# Altium footprint library Tigershark3D.PcbLib: 54 footprints (part 2 of 4)
Each footprint in its own frame and in the unit in brackets; x right, y up, seen from the top. Pads: shape width x height; smd on the part's side, far side on the other; paste and mask are expansions set on the pad; w line width, h text height; cw(c..) or ccw(c..) is an arc to the next point about the centre after c.
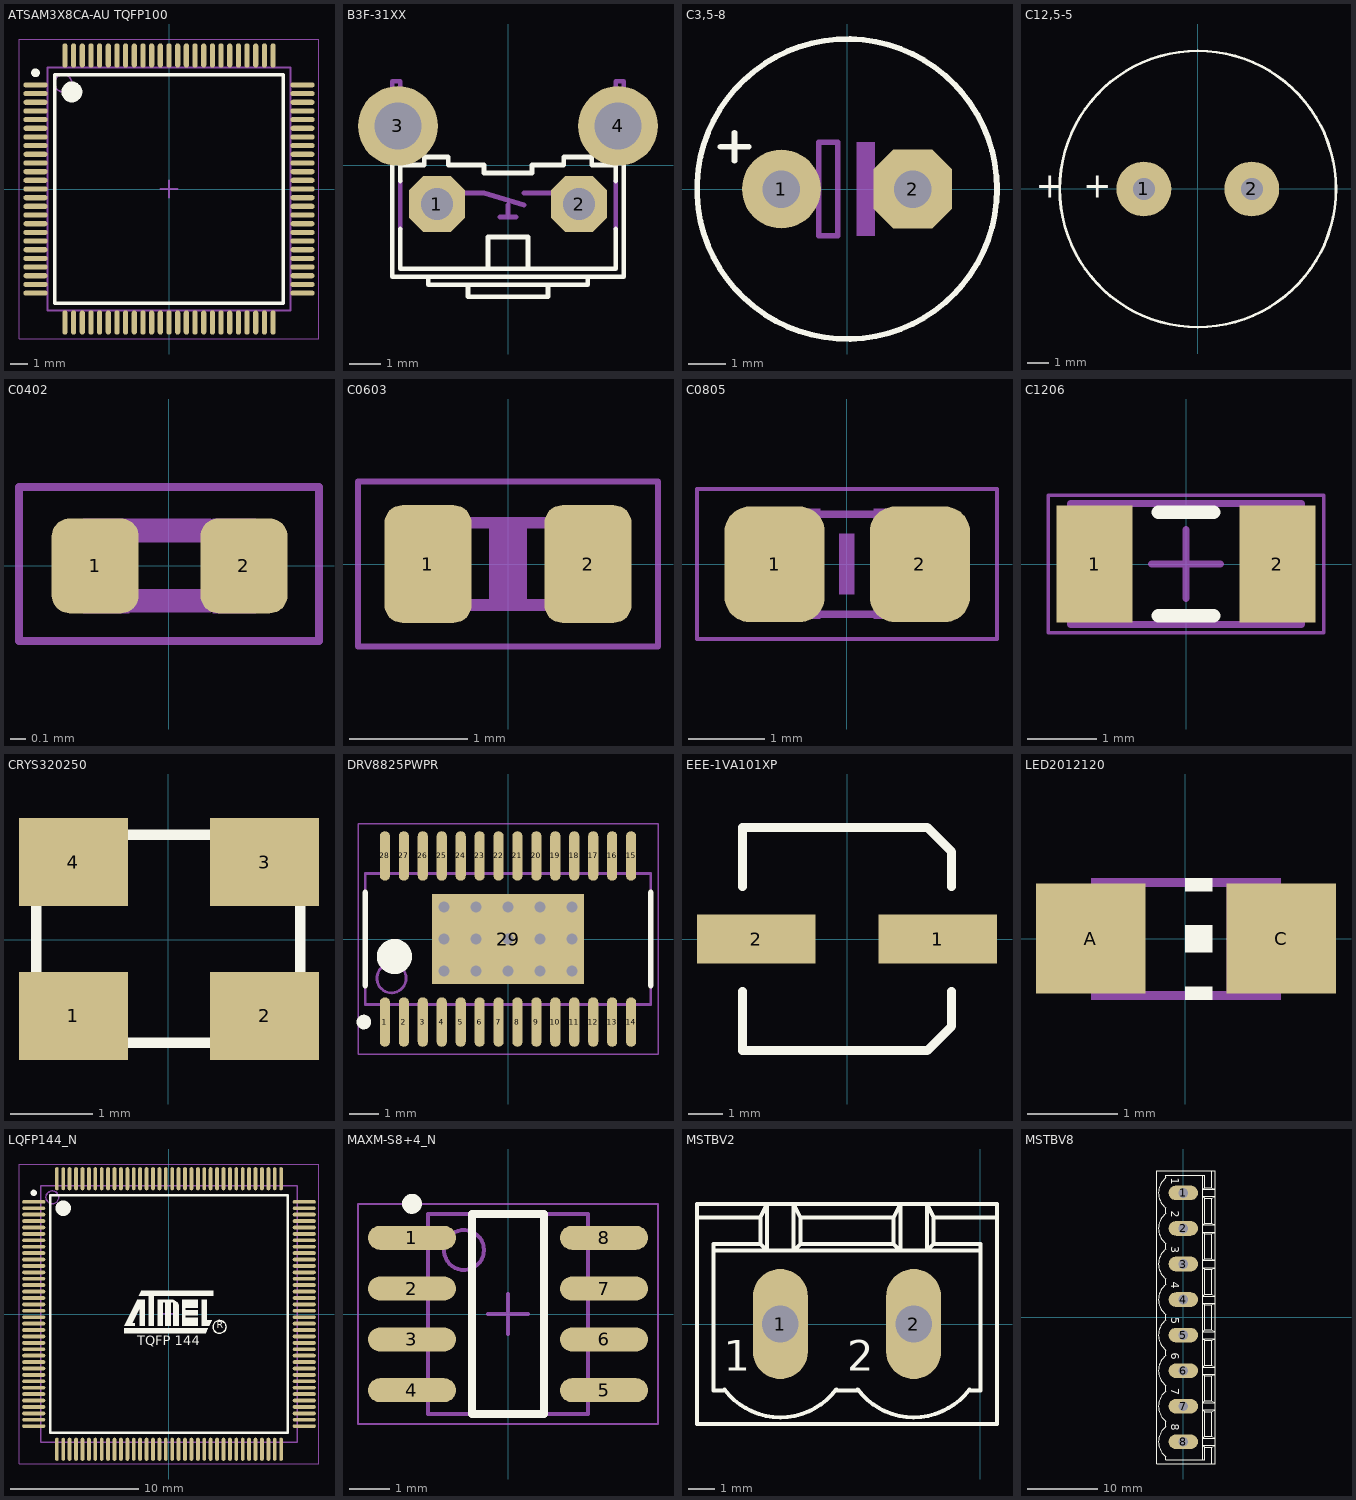
[diagram p1: the footprints below, top view; thin cyan lines are the x and y axes]

## ATSAM3X8CA-AU TQFP100 [mm] "TSQFP, 100-Leads, Body 14.00x14.00mm, Pitch 0.50mm, IPC Medium Density"
height 1.6
pads (100):
  oval 1.4x0.3 smd: 1(-7.7,6) 2(-7.7,5.5) 3(-7.7,5) 4(-7.7,4.5) 5(-7.7,4) 6(-7.7,3.5) 7(-7.7,3) 8(-7.7,2.5) 9(-7.7,2) 10(-7.7,1.5) 11(-7.7,1) 12(-7.7,0.5) 13(-7.7,0) 14(-7.7,-0.5) 15(-7.7,-1) 16(-7.7,-1.5) 17(-7.7,-2) 18(-7.7,-2.5) 19(-7.7,-3) 20(-7.7,-3.5) 21(-7.7,-4) 22(-7.7,-4.5) 23(-7.7,-5) 24(-7.7,-5.5) 25(-7.7,-6) 51(7.7,-6) 52(7.7,-5.5) 53(7.7,-5) 54(7.7,-4.5) 55(7.7,-4) 56(7.7,-3.5) 57(7.7,-3) 58(7.7,-2.5) 59(7.7,-2) 60(7.7,-1.5) 61(7.7,-1) 62(7.7,-0.5) 63(7.7,0) 64(7.7,0.5) 65(7.7,1) 66(7.7,1.5) 67(7.7,2) 68(7.7,2.5) 69(7.7,3) 70(7.7,3.5) 71(7.7,4) 72(7.7,4.5) 73(7.7,5) 74(7.7,5.5) 75(7.7,6)
  oval 0.3x1.4 smd: 26(-6,-7.7) 27(-5.5,-7.7) 28(-5,-7.7) 29(-4.5,-7.7) 30(-4,-7.7) 31(-3.5,-7.7) 32(-3,-7.7) 33(-2.5,-7.7) 34(-2,-7.7) 35(-1.5,-7.7) 36(-1,-7.7) 37(-0.5,-7.7) 38(0,-7.7) 39(0.5,-7.7) 40(1,-7.7) 41(1.5,-7.7) 42(2,-7.7) 43(2.5,-7.7) 44(3,-7.7) 45(3.5,-7.7) 46(4,-7.7) 47(4.5,-7.7) 48(5,-7.7) 49(5.5,-7.7) 50(6,-7.7) 76(6,7.7) 77(5.5,7.7) 78(5,7.7) 79(4.5,7.7) 80(4,7.7) 81(3.5,7.7) 82(3,7.7) 83(2.5,7.7) 84(2,7.7) 85(1.5,7.7) 86(1,7.7) 87(0.5,7.7) 88(0,7.7) 89(-0.5,7.7) 90(-1,7.7) 91(-1.5,7.7) 92(-2,7.7) 93(-2.5,7.7) 94(-3,7.7) 95(-3.5,7.7) 96(-4,7.7) 97(-4.5,7.7) 98(-5,7.7) 99(-5.5,7.7) 100(-6,7.7)
Top Overlay:
  circle w0.25: c-7.7,6.7 r0.125
  circle w0.6: c-5.6,5.6 r0.3
  lines w0.2: -6.6,-6.6 -6.6,6.6 6.6,6.6 6.6,-6.6 -6.6,-6.6
Mechanical 13:
  circle w0.1: c-6.1,6.1 r0.5
  lines w0.1: -7,-7 -7,7 7,7 7,-7 -7,-7
Mechanical 15:
  lines w0.05: -8.65,-8.65 -8.65,8.65 8.65,8.65 8.65,-8.65 -8.65,-8.65
  lines w0.1: -0.5,0 0.5,0 ; 0,-0.5 0,0.5
3D body: height 1.6, standoff 0.05, extent -7,-7 7,7

## B3F-31XX [mil]
pads (4):
  oct 70x70 hole 40: 1(-89,-49) 2(89,-49)
  round 100 hole 59: 3(-138,49) 4(138,49)
Top Overlay:
  lines w6: -145,0 -145,-140 100,-140 ; -135,-80 -135,-130 -25,-130 ; -135,-20 -135,0 -105,0 -105,10 -75,10 -75,0 -30,0 -30,-10 30,-10 30,0 70,0 70,10 105,10 105,0 135,0 135,-20 ; -100,-140 -100,-150 -50,-150 ; 135,-80 135,-130 25,-130 ; 145,0 145,-140 100,-140 ; -50,-150 50,-150 ; -50,-150 -50,-165 50,-165 50,-150 ; -25,-130 25,-130 ; -25,-130 -25,-90 25,-90 25,-130 ; 50,-150 100,-150 100,-140
Mechanical 16:
  lines w6: -145,0 -145,105 -135,105 -135,0 ; -135,-80 -135,-20 ; -65,-35 -30,-35 20,-50 ; -10,-65 0,-65 ; 0,-50 0,-65 ; 10,-65 0,-65 ; 20,-35 65,-35 ; 135,-80 135,-20 ; 135,0 135,105 145,105 145,0
3D body: height 303.15, standoff -137.8, extent -165.35,-200 165.35,109.06

## C3,5-8 [mil]
pads (2):
  round 84 hole 40: 1(-70,0)
  oct 84x84 hole 40: 2(70,0)
Top Overlay:
  circle w6: c0,0 r160
  lines w6: -135,45 -105,45 ; -120,30 -120,60
Mechanical 8:
  rectangle: 10,-50 30,50
  lines w6: -65,0 -30,0 ; 25,0 65,0 ; -30,0 -30,50 -10,50 -10,-50 -30,-50 -30,0
3D body: height 511.81, standoff 0, extent -160.47,-160.47 160.47,160.47

## C12,5-5 [mm]
pads (2):
  round 2.54 hole 1.016: 1(-2.5,0) 2(2.5,0)
Top Overlay:
  circle w0.127: c0,0 r6.401
  text "+" at -5.3,-0.8 h1.97
  text "+" at -7.5,-0.8 h1.97
3D body: height 20, standoff 0, extent -6.41,-6.41 6.41,6.41

## C0402 [mil]
pads (2):
  rrect40% 22x24 smd: 1(-18.7,0) 2(19,0)
Mechanical 8:
  rectangle: 11,-12 22,12
  rectangle: -21.8,-12 -9.98,12
  lines w6: -9.65,-8.82 10,-8.82 ; -9.65,9 10,9
Mechanical 15:
  lines w2: -37.99,-19.02 -37.99,20 38,20 38,-19.02 -37.99,-19.02
3D body: height 19.68, standoff 0, extent -20,-10 20,10

## C0603 [mm]
pads (2):
  rrect40% 0.74x1 smd: 1(-0.68,0) 2(0.68,0)
Mechanical 6:
  rectangle: -0.16,-0.3 0.16,0.3
Mechanical 8:
  rectangle: -0.8,-0.4 -0.45,0.4
  rectangle: 0.45,-0.4 0.8,0.4
  lines w0.1: -0.45,0.35 0.45,0.35
  lines w0.102: -0.45,-0.35 0.45,-0.35
Mechanical 15:
  lines w0.051: -1.275,-0.7 1.275,-0.7 1.275,0.7 -1.275,0.7 -1.275,-0.7
3D body: height 0.8, standoff 0, extent -0.8,-0.4 0.8,0.4

## C0805 [mil]
pads (2):
  rrect50% 52x60 smd: 1(-37.4,0) 2(38,0)
Mechanical 6:
  rectangle: -3.94,-15.75 4,16
Mechanical 8:
  rectangle: -43,-28.5 -13.47,29
  rectangle: 14,-28.5 44,29
  lines w4: -15,26 15,26 ; -14.02,-25.98 15,-25.98
Mechanical 15:
  lines w2: -77.68,-38.7 78,-38.7 78,39 -77.68,39 -77.68,-38.7
3D body: height 35.43, standoff 0, extent -40,-30 40,30

## C1206 [mm]
height 1.6
pads (2):
  rect 1.1x1.7 smd: 1(-1.325,0) 2(1.325,0)
Top Overlay:
  lines w0.2: -0.4,-0.75 0.4,-0.75 ; -0.4,0.75 0.4,0.75
Mechanical 13:
  lines w0.1: -1.675,-0.875 -1.675,0.875 1.675,0.875 1.675,-0.875 -1.675,-0.875
Mechanical 15:
  lines w0.05: -2,-1 -2,1 2,1 2,-1 -2,-1
  lines w0.1: -0.5,0 0.5,0 ; 0,-0.5 0,0.5
3D body: height 1.6, standoff 0, extent -1.125,-0.875 1.125,0.875
3D body: height 1.6, standoff 0, extent -1.675,-0.875 -1.125,0.875
3D body: height 1.6, standoff 0, extent 1.125,-0.875 1.675,0.875

## CRYS320250 [mil]
pads (4):
  rect 52x42 smd: 1(-45.28,-36.42) 2(46,-36.42) 3(46,37) 4(-45.28,37)
Top Overlay:
  lines w5: -62.99,-49.21 63,-49.21 63,50 -62.99,50 -62.99,-49.21
3D body: height 27.56, standoff 0, extent -62.97,-49.19 62.98,49.98

## DRV8825PWPR [mm] "PowerPAD (HTSSOP) - PWP"
height 1.2
pads (29):
  oval 0.35x1.7 smd: 1(-4.225,-2.85) 2(-3.575,-2.85) 3(-2.925,-2.85) 4(-2.275,-2.85) 5(-1.625,-2.85) 6(-0.975,-2.85) 7(-0.325,-2.85) 8(0.325,-2.85) 9(0.975,-2.85) 10(1.625,-2.85) 11(2.275,-2.85) 12(2.925,-2.85) 13(3.575,-2.85) 14(4.225,-2.85) 15(4.225,2.85) 16(3.575,2.85) 17(2.925,2.85) 18(2.275,2.85) 19(1.625,2.85) 20(0.975,2.85) 21(0.325,2.85) 22(-0.325,2.85) 23(-0.975,2.85) 24(-1.625,2.85) 25(-2.275,2.85) 26(-2.925,2.85) 27(-3.575,2.85) 28(-4.225,2.85)
  rect 5.22x3.1 smd mask-6: 29(0,0)
via 2.2,1.1 diameter 0.737 hole 0.381
via 2.2,0 diameter 0.737 hole 0.381
via 2.2,-1.1 diameter 0.737 hole 0.381
via 1.1,1.1 diameter 0.737 hole 0.381
via 1.1,0 diameter 0.737 hole 0.381
via 1.1,-1.1 diameter 0.737 hole 0.381
via 0,1.1 diameter 0.737 hole 0.381
via 0,0 diameter 0.737 hole 0.381
via 0,-1.1 diameter 0.737 hole 0.381
via -1.1,1.1 diameter 0.737 hole 0.381
via -1.1,0 diameter 0.737 hole 0.381
via -1.1,-1.1 diameter 0.737 hole 0.381
via -2.2,1.1 diameter 0.737 hole 0.381
via -2.2,0 diameter 0.737 hole 0.381
via -2.2,-1.1 diameter 0.737 hole 0.381
Top Overlay:
  circle w0.6: c-3.9,-0.6 r0.3
  circle w0.25: c-4.95,-2.85 r0.125
  lines w0.2: -4.9,-1.6 -4.9,1.6 ; 4.9,-1.6 4.9,1.6
Top Solder:
  drawing of 6 lines, arcs and shapes, not listed
Mechanical 13:
  circle w0.1: c-4,-1.35 r0.5
  lines w0.1: -4.9,-2.25 -4.9,2.25 4.9,2.25 4.9,-2.25 -4.9,-2.25
Mechanical 15:
  lines w0.05: -5.15,-3.95 -5.15,3.95 5.15,3.95 5.15,-3.95 -5.15,-3.95
  lines w0.1: -0.5,0 0.5,0 ; 0,-0.5 0,0.5
3D body: height 1.2, standoff 0.1, extent -4.9,-2.25 4.9,2.25

## EEE-1VA101XP [mm] "Panasonic VS D EEE-1VA101XP"
height 7.7
pads (2):
  rect 3.4x1.4 smd: 1(2.6,0) 2(-2.6,0)
Top Overlay:
  lines w0.254: -3,-1.5 -3,-3.2 2.3,-3.2 3,-2.5 3,-1.5 ; -3,1.5 -3,3.2 2.3,3.2 3,2.5 3,1.5
3D body: height 5.4, standoff 0, extent -3.5,-3.3 3.5,3.3

## LED2012120 [mil]
pads (2):
  rect 48x48 smd: A(-41.34,0) C(42,0)
Top Overlay:
  region: 0,5.9 0,-6 12,-6 12,5.9
  region: 0,-21 0,-27 12,-27 12,-21
  region: 0,26.57 0,20.67 12,20.67 12,26.57
Mechanical 8:
  region: -41.34,26.58 -41.34,-27 -17.72,-27 -17.72,26.57
  region: 18,26.58 18,-27 42,-27 42,26.58
  lines w4: -18.7,-25 18,-25 ; -17.72,24.61 18,24.61
3D body: height 11.81, standoff 0, extent -50,-25 50,25
3D body: height 27.56, standoff 0, extent -30,-25 30,25
3D body: height 15.75, standoff 0, extent 20,-10 35,10

## LQFP144_N [mm]
height 1.35
pads (144):
  oval 1.8x0.3 smd: 1(-10.55,8.75) 2(-10.55,8.25) 3(-10.55,7.75) 4(-10.55,7.25) 5(-10.55,6.75) 6(-10.55,6.25) 7(-10.55,5.75) 8(-10.55,5.25) 9(-10.55,4.75) 10(-10.55,4.25) 11(-10.55,3.75) 12(-10.55,3.25) 13(-10.55,2.75) 14(-10.55,2.25) 15(-10.55,1.75) 16(-10.55,1.25) 17(-10.55,0.75) 18(-10.55,0.25) 19(-10.55,-0.25) 20(-10.55,-0.75) 21(-10.55,-1.25) 22(-10.55,-1.75) 23(-10.55,-2.25) 24(-10.55,-2.75) 25(-10.55,-3.25) 26(-10.55,-3.75) 27(-10.55,-4.25) 28(-10.55,-4.75) 29(-10.55,-5.25) 30(-10.55,-5.75) 31(-10.55,-6.25) 32(-10.55,-6.75) 33(-10.55,-7.25) 34(-10.55,-7.75) 35(-10.55,-8.25) 36(-10.55,-8.75) 73(10.55,-8.75) 74(10.55,-8.25) 75(10.55,-7.75) 76(10.55,-7.25) 77(10.55,-6.75) 78(10.55,-6.25) 79(10.55,-5.75) 80(10.55,-5.25) 81(10.55,-4.75) 82(10.55,-4.25) 83(10.55,-3.75) 84(10.55,-3.25) 85(10.55,-2.75) 86(10.55,-2.25) 87(10.55,-1.75) 88(10.55,-1.25) 89(10.55,-0.75) 90(10.55,-0.25) 91(10.55,0.25) 92(10.55,0.75) 93(10.55,1.25) 94(10.55,1.75) 95(10.55,2.25) 96(10.55,2.75) 97(10.55,3.25) 98(10.55,3.75) 99(10.55,4.25) 100(10.55,4.75) 101(10.55,5.25) 102(10.55,5.75) 103(10.55,6.25) 104(10.55,6.75) 105(10.55,7.25) 106(10.55,7.75) 107(10.55,8.25) 108(10.55,8.75)
  oval 0.3x1.8 smd: 37(-8.75,-10.55) 38(-8.25,-10.55) 39(-7.75,-10.55) 40(-7.25,-10.55) 41(-6.75,-10.55) 42(-6.25,-10.55) 43(-5.75,-10.55) 44(-5.25,-10.55) 45(-4.75,-10.55) 46(-4.25,-10.55) 47(-3.75,-10.55) 48(-3.25,-10.55) 49(-2.75,-10.55) 50(-2.25,-10.55) 51(-1.75,-10.55) 52(-1.25,-10.55) 53(-0.75,-10.55) 54(-0.25,-10.55) 55(0.25,-10.55) 56(0.75,-10.55) 57(1.25,-10.55) 58(1.75,-10.55) 59(2.25,-10.55) 60(2.75,-10.55) 61(3.25,-10.55) 62(3.75,-10.55) 63(4.25,-10.55) 64(4.75,-10.55) 65(5.25,-10.55) 66(5.75,-10.55) 67(6.25,-10.55) 68(6.75,-10.55) 69(7.25,-10.55) 70(7.75,-10.55) 71(8.25,-10.55) 72(8.75,-10.55) 109(8.75,10.55) 110(8.25,10.55) 111(7.75,10.55) 112(7.25,10.55) 113(6.75,10.55) 114(6.25,10.55) 115(5.75,10.55) 116(5.25,10.55) 117(4.75,10.55) 118(4.25,10.55) 119(3.75,10.55) 120(3.25,10.55) 121(2.75,10.55) 122(2.25,10.55) 123(1.75,10.55) 124(1.25,10.55) 125(0.75,10.55) 126(0.25,10.55) 127(-0.25,10.55) 128(-0.75,10.55) 129(-1.25,10.55) 130(-1.75,10.55) 131(-2.25,10.55) 132(-2.75,10.55) 133(-3.25,10.55) 134(-3.75,10.55) 135(-4.25,10.55) 136(-4.75,10.55) 137(-5.25,10.55) 138(-5.75,10.55) 139(-6.25,10.55) 140(-6.75,10.55) 141(-7.25,10.55) 142(-7.75,10.55) 143(-8.25,10.55) 144(-8.75,10.55)
Top Overlay:
  circle w0.6: c-8.25,8.25 r0.3
  circle w0.25: c-10.55,9.45 r0.125
  circle w0.102: c3.944,-1.006 r0.508
  region: -3.473,-1.106 -3.473,-1.506 2.852,-1.506 3.03,-1.106
  region: 2.547,1.11 2.547,-0.907 3.131,-0.907 3.334,-0.506 2.928,-0.506 2.928,1.11
  region: 1.048,1.11 1.048,-0.907 2.242,-0.907 2.242,-0.307 1.252,-0.307 1.252,-0.084 2.242,-0.084 2.242,0.297 1.252,0.297 1.252,0.5 2.242,0.5 2.242,1.11
  region: -0.873,1.11 -0.873,-0.907 -0.473,-0.907 -0.473,0.907 -0.273,0.907 -0.273,-0.907 0.127,-0.907 0.127,0.907 0.327,0.907 0.327,-0.907 0.744,-0.907 0.744,0.703 0.642,0.907 0.54,1.008 0.327,1.11
  region: -2.373,1.415 -2.173,1.796 3.436,1.796 3.436,1.415 -1.173,1.415 -1.173,-0.907 -1.573,-0.907 -1.573,1.415
  region: -3.473,-0.907 -2.473,1.11 -1.873,1.11 -1.873,-0.907 -2.273,-0.907 -2.273,0.5 -2.873,-0.706 -2.673,-0.706 -2.673,-0.907
  lines w0.2: -9.25,-9.25 9.25,-9.25 9.25,9.25 -9.25,9.25 -9.25,-9.25
  text "R" at 3.741,-1.307 h0.94
  text "TQFP 144" at -2.473,-2.717 h1.26
Mechanical 13:
  circle w0.1: c-9.1,9.1 r0.5
  lines w0.1: -10,-10 10,-10 10,10 -10,10 -10,-10
Mechanical 15:
  lines w0.05: -11.7,-11.7 11.7,-11.7 11.7,11.7 -11.7,11.7 -11.7,-11.7
  lines w0.1: -0.5,0 0.5,0 ; 0,-0.5 0,0.5
3D body: height 1.6, standoff 0, extent -10,-10 10,10

## MAXM-S8+4_N [mm]
pads (8):
  oval 2.2x0.6 smd: 1(-2.4,1.905) 2(-2.4,0.635) 3(-2.4,-0.635) 4(-2.4,-1.905) 5(2.4,-1.905) 6(2.4,-0.635) 7(2.4,0.635) 8(2.4,1.905)
Top Overlay:
  circle w0.25: c-2.4,2.755 r0.125
  lines w0.2: -0.9,-2.5 -0.9,2.5 0.9,2.5 0.9,-2.5 -0.9,-2.5
Mechanical 13:
  circle w0.1: c-1.1,1.6 r0.5
  lines w0.1: -2,-2.5 -2,2.5 2,2.5 2,-2.5 -2,-2.5
Mechanical 15:
  lines w0.05: -3.75,-2.75 -3.75,2.75 3.75,2.75 3.75,-2.75 -3.75,-2.75
  lines w0.1: -0.5,0 0.5,0 ; 0,-0.5 0,0.5
3D body: height 1.75, standoff 0.1, extent -2,-2.5 2,2.5

## MSTBV2 [mil]
pads (2):
  oval 82.5x165 hole 55: 1(-300,0) 2(-100,0)
Top Overlay:
  lines w6: -384,-98 ccw(c-300,-35) -300,-140 ccw(c-300,-35) -216,-98 ; -383,-100 -400,-100 -400,110 ; -215,-100 -185,-100 ; -184,-98 ccw(c-100,-35) -100,-140 ccw(c-100,-35) -16,-98 ; -17,-100 0,-100 0,110 ; -425,160 -425,180 -320,180 ; -425,160 -425,-150 25,-150 25,160 ; -425,160 -330,160 ; -400,110 -400,120 -330,120 ; -400,110 -320,110 ; -330,120 -330,160 ; -330,120 -320,110 ; -330,160 -320,180 ; -320,110 -280,110 ; -320,110 -320,180 ; -320,180 -280,180 ; -280,110 -120,110 ; -280,110 -280,180 ; -280,110 -270,120 ; -280,180 -120,180 ; -280,180 -270,160 ; -270,120 -130,120 ; -270,120 -270,160 ; -270,160 -130,160 ; -130,120 -130,160 ; -130,120 -120,110 ; -130,160 -120,180 ; -120,110 -80,110 ; -120,110 -120,180 ; -120,180 -80,180 ; -80,110 -70,120 ; -80,110 0,110 ; -80,110 -80,180 ; -80,110 -70,120 ; -80,180 -70,160 ; -80,180 25,180 25,160 ; -80,180 -70,160 ; -70,120 -70,160 ; -70,120 0,120 0,110 ; -70,160 25,160
  text "1" at -385,-85 h77.5
  text "2" at -200,-85 h77.5
Mechanical 16:
  lines w6: -325,-25 -325,25 ; -325,-25 -275,-25 ; -325,-25 -275,25 ; -325,25 -275,25 ; -325,25 -275,-25 ; -275,-25 -275,25 ; -125,-25 -75,-25 ; -125,-25 -125,25 ; -125,-25 -75,25 ; -125,25 -75,25 ; -125,25 -75,-25 ; -75,-25 -75,25 ; -75,-25 -75,25
3D body: height 472.44, standoff 0, extent -425,-150 25,180

## MSTBV8 [mil]
pads (8):
  oval 165x82.5 hole 55: 1(0,700) 2(0,500) 3(0,300) 4(0,100) 5(0,-100) 6(0,-300) 7(0,-500) 8(0,-700)
Top Overlay:
  drawing of 151 lines, arcs and shapes, not listed
  text "4" at -85,200 h77.5
  text "3" at -85,400 h77.5
  text "2" at -85,600 h77.5
  text "1" at -85,785 h77.5
  text "5" at -85,0 h77.5
  text "6" at -85,-200 h77.5
  text "7" at -85,-400 h77.5
  text "8" at -85,-600 h77.5
Mechanical 16:
  lines w6: -25,-725 25,-725 ; -25,-725 25,-675 ; -25,-725 -25,-675 ; -25,-675 25,-675 ; -25,-675 25,-725 ; -25,-525 25,-525 ; -25,-525 25,-475 ; -25,-525 -25,-475 ; -25,-475 25,-475 ; -25,-475 25,-525 ; -25,-325 -25,-275 ; -25,-325 25,-325 ; -25,-325 25,-275 ; -25,-275 25,-275 ; -25,-275 25,-325 ; -25,-125 -25,-75 ; -25,-125 25,-125 ; -25,-125 25,-75 ; -25,-75 25,-75 ; -25,-75 25,-125 ; -25,75 -25,125 ; -25,75 25,125 ; -25,75 25,75 ; -25,125 25,75 ; -25,125 25,125 ; -25,275 25,325 ; -25,275 25,275 ; -25,275 -25,325 ; -25,325 25,275 ; -25,325 25,325 ; -25,475 25,525 ; -25,475 25,475 ; -25,475 -25,525 ; -25,525 25,475 ; -25,525 25,525 ; -25,675 25,725 ; -25,675 25,675 ; -25,675 -25,725 ; -25,725 25,675 ; -25,725 25,725 ; 25,-725 25,-675 ; 25,-525 25,-475 ; 25,-325 25,-275 ; 25,-125 25,-75 ; 25,75 25,125 ; 25,275 25,325 ; 25,475 25,525 ; 25,675 25,725
3D body: height 472.44, standoff 0, extent -150,-825 180,825